# EAGLE library part MFKDSP6-5.08 (library con-phoenix-MFKDSP)
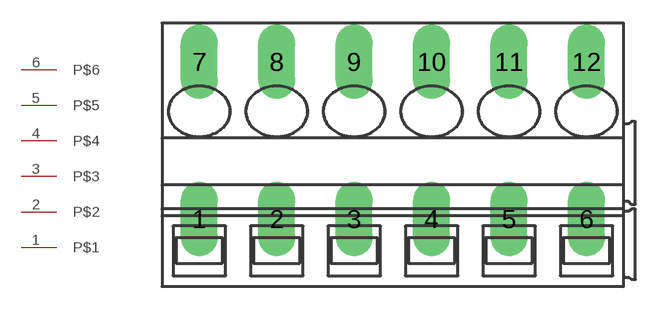
[diagram p0: symbol with the pads of PHONEIX; footprint PHONEIX]

Designator prefix -

## MFKDSP6-5.08  [PHONEIX]
1  P$1
2  P$2
3  P$3
4  P$4
5  P$5
6  P$6

## Footprint PHONEIX (pad centres in mm)
drill 1.6 pad 1.8 long: 1 2.58,4.445; 2 7.58,4.445; 3 12.58,4.445; 4 17.58,4.445; 5 22.58,4.445; 6 27.58,4.445; 7 2.58,14.605; 8 7.58,14.605; 9 12.58,14.605; 10 17.58,14.605; 11 22.58,14.605; 12 27.58,14.605